# Altium footprint library LD1117S33TR.PcbLib: 1 footprints
Each footprint in its own frame and in the unit in brackets; x right, y up, seen from the top. Pads: shape width x height; smd on the part's side, far side on the other; paste and mask are expansions set on the pad; w line width, h text height; cw(c..) or ccw(c..) is an arc to the next point about the centre after c.
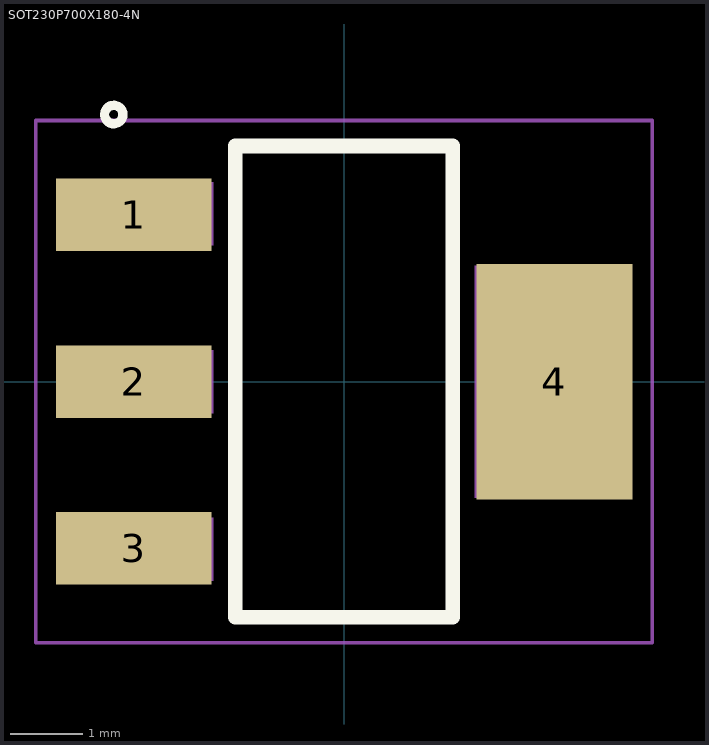
[diagram p0: the footprint, top view; thin cyan lines are the x and y axes]

## SOT230P700X180-4N [mm]
pads (4):
  rect 2.15x1 smd: 1(-2.9,2.3) 2(-2.9,0) 3(-2.9,-2.3)
  rect 2.15x3.25 smd: 4(2.9,0)
Top Overlay:
  circle w0.127: c-3.175,3.683 r0.127
  lines w0.203: -1.5,-3.25 -1.5,3.25 1.5,3.25 1.5,-3.25 -1.5,-3.25
Mechanical 13:
  region: -1.803,-2.744 -3.658,-2.744 -3.658,-1.88 -1.803,-1.88
  region: -1.805,1.879 -3.658,1.879 -3.658,2.745 -1.805,2.745
  region: -1.805,-0.435 -3.661,-0.435 -3.661,0.434 -1.805,0.434
  region: 3.659,-1.6 1.804,-1.6 1.804,1.599 3.659,1.599
  region: -1.803,-2.746 -3.66,-2.746 -3.66,-1.88 -1.803,-1.88
  region: -1.807,1.878 -3.659,1.878 -3.659,2.746 -1.807,2.746
  region: -1.804,-0.433 -3.659,-0.433 -3.659,0.433 -1.804,0.433
  region: 3.66,-1.6 1.804,-1.6 1.804,1.598 3.66,1.598
Mechanical 15:
  lines w0.05: -4.25,-3.6 -4.25,3.6 4.25,3.6 4.25,-3.6 -4.25,-3.6
3D body "step_temp.STEP": height 1.8, standoff 0, extent -3.499,-3.25 3.499,3.25